# Altium footprint library OSC_DSC6083CI2A-032K768.PcbLib: 2 footprints
Each footprint in its own frame and in the unit in brackets; x right, y up, seen from the top. Pads: shape width x height; smd on the part's side, far side on the other; paste and mask are expansions set on the pad; w line width, h text height; cw(c..) or ccw(c..) is an arc to the next point about the centre after c.
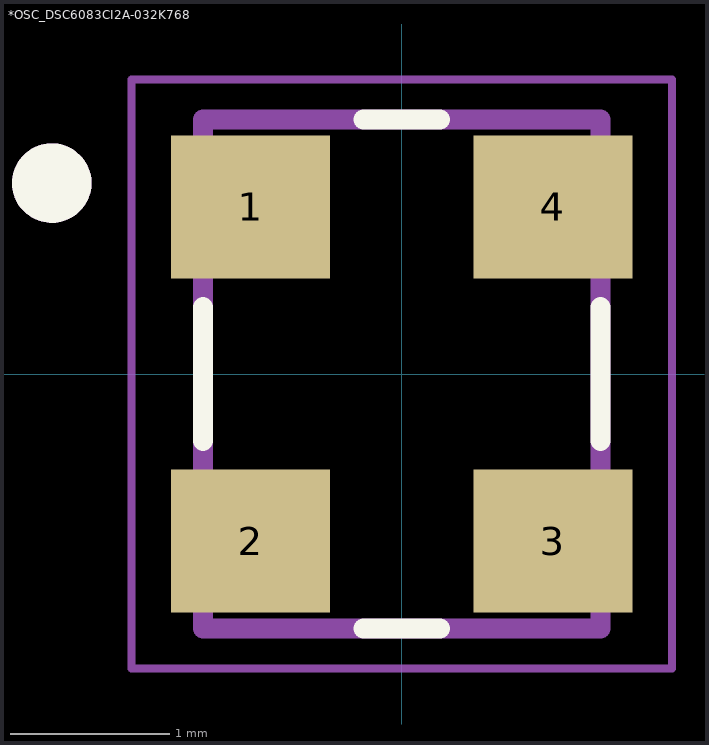
[diagram p0: the footprints below, top view; thin cyan lines are the x and y axes]

## *OSC_DSC6083CI2A-032K768 [mm]
pads (4):
  rect 1x0.9 smd: 1(-0.95,1.05) 2(-0.95,-1.05) 3(0.95,-1.05) 4(0.95,1.05)
Top Overlay:
  circle w0.3: c-2.2,1.2 r0.1
  lines w0.127: -1.25,-0.42 -1.25,0.42 ; -0.24,-1.6 0.24,-1.6 ; -0.24,1.6 0.24,1.6 ; 1.25,-0.42 1.25,0.42
Mechanical 4:
  circle w0.3: c-2.2,1.2 r0.1
  circle w0.3: c-2.2,1.2 r0.1
  lines w0.127: -1.25,-1.6 1.25,-1.6 ; -1.25,-1.6 -1.25,1.6 ; -1.25,-1.6 1.25,-1.6 ; -1.25,-1.6 -1.25,1.6 ; -1.25,1.6 1.25,1.6 ; -1.25,1.6 1.25,1.6 ; 1.25,-1.6 1.25,1.6 ; 1.25,-1.6 1.25,1.6
Mechanical 16:
  lines w0.05: -1.7,-1.85 1.7,-1.85 1.7,1.85 -1.7,1.85 -1.7,-1.85

## PCBComponent_1 [mm]